# EAGLE library part MPX (library cansat-lib)
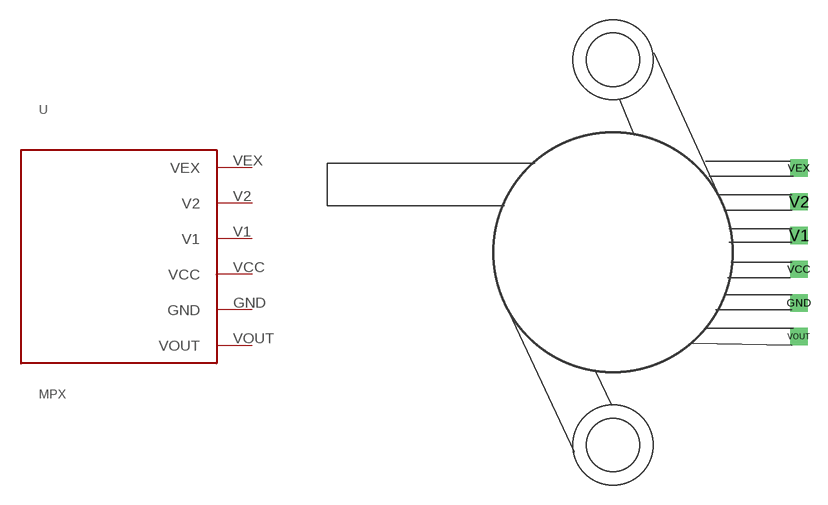
[diagram p6: symbol with the pads of MPX; footprint MPX]

Designator prefix -

## MPX  [MPX]
GND  GND
V1  V1
V2  V2
VCC  VCC
VEX  VEX
VOUT  VOUT

## Footprint MPX (pad centres in mm)
drill 0.8 square: GND 14,-3.81; V1 14,1.27; V2 14,3.81; VCC 14,-1.27; VEX 14,6.35; VOUT 14,-6.35